# Altium schematic symbol library DualMetro.SchLib: 14 symbols
Pins are listed as number, name and electrical type; pins without a type are passive.

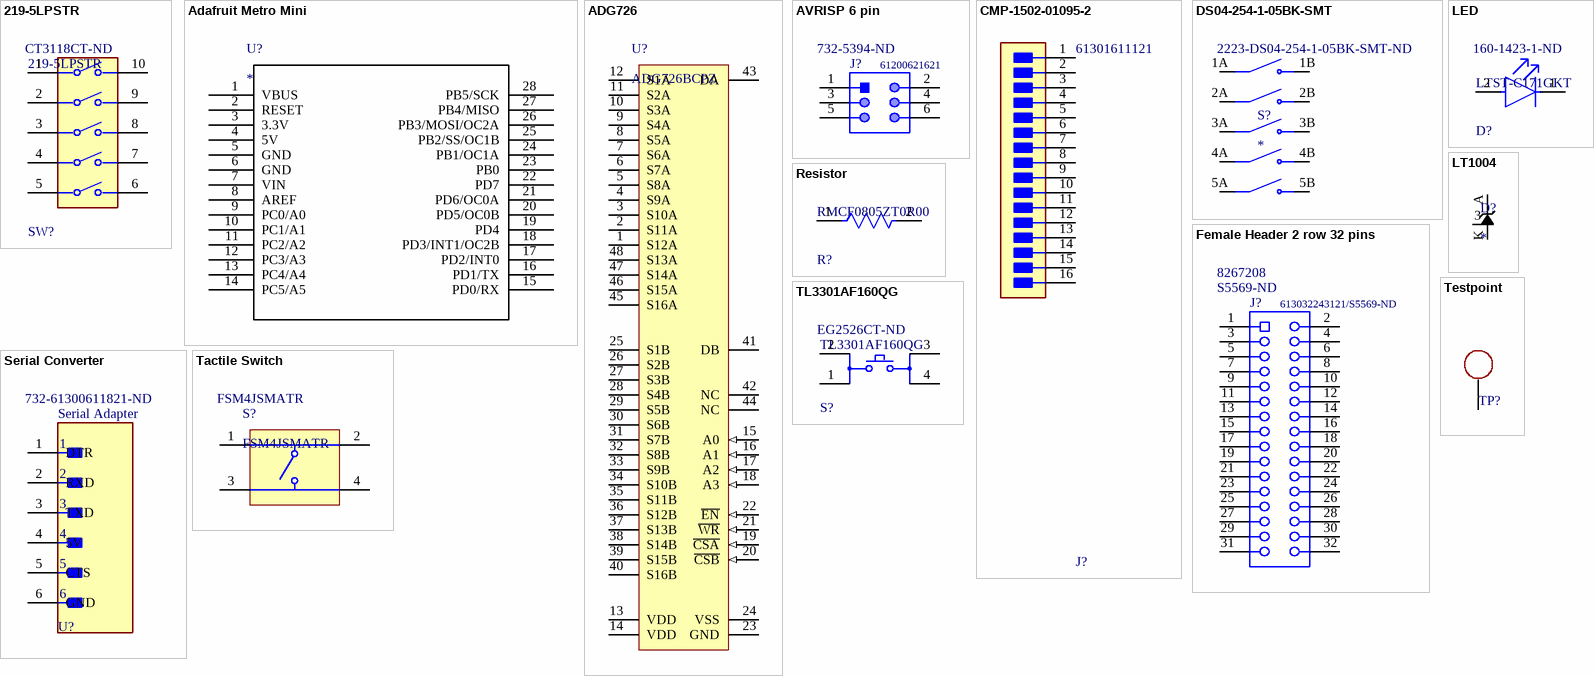
[diagram p0: symbols 219-5LPSTR to TL3301AF160QG]

## 219-5LPSTR
designator SW?  Supplier Part Number 1: CT3118CT-ND
Switches, SPST, Latched, 0.1A, 20VDC, Solder; Pitch: 0.1inch; Actuator Type: Slide (Standard); Washable: Yes; Max Current Rating: 100mA; Number of Positions: 5; Electrical Life: 2000Cycles; Max Voltage Rating (DC): 20V; Packaging: Tape and Reel; Lead Free: Lead Free; Contact Plating: Gold; Max Operating Temperature: 85°C; Length: 0.558inch; Package Quantity: 1000; Orientation: Straight; Min Operating Temperature: -55°C; Radiation Hardening: No; Mount: Surface Mount; Current Rating: 100mA; Termination: Gull Wing; Contact Material: Copper; Voltage Rating (DC): 20V; Depth: 9.91mm; Mechanical Life: 2000Cycles; Throw Configuration: SPST; Supplier 1: Digi-Key
footprint FP-219-5LPSTR-MFG
pins: 1, 2, 3, 4, 5, 6, 7, 8, 9, 10

## Adafruit Metro Mini
designator U?  (no BOM)
footprint Adafruit Metro Mini (ATmega328P development board)
pins: 1 VBUS, 2 RESET, 3 3.3V, 4 5V, 5 GND, 6 GND, 7 VIN, 8 AREF, 9 PC0/A0, 10 PC1/A1, 11 PC2/A2, 12 PC3/A3, 13 PC4/A4, 14 PC5/A5, 15 PD0/RX, 16 PD1/TX, 17 PD2/INT0, 18 PD3/INT1/OC2B, 19 PD4, 20 PD5/OC0B, 21 PD6/OC0A, 22 PD7, 23 PB0, 24 PB1/OC1A, 25 PB2/SS/OC1B, 26 PB3/MOSI/OC2A, 27 PB4/MISO, 28 PB5/SCK

## ADG726
designator U?, comment ADG726BCPZ  (no BOM)
1.8 to 5.5 V / +/-2.5 V, 4 Ohm, 16-Channel Analog Multiplexer, -40 to 85 degC, 48-pin QFN (CP-48-1), Tray; Manufacturer: Analog Devices; Ron (ohms): 4; Supply V Guar Performance: Dual_(+/-2.5V), Single_(+3V), Single_(+5V); Bandwidth (Hz): 34M; Max Analog Signal Range: Vss to Vdd; t transition (s): 23n; PackageDescription: 48-Pin Lead Frame Chip Scale Package, Body 7 x 7 mm, Pitch 0.5 mm; ComponentLink3URL: http:/www.analog.com/static/imported-files/packages/PKG_PDF/LFCSP(CP)/CP-48/CP_48_1.pdf; Code_JEDEC: MO-220-VKKD-2; ComponentLink2Description: Datasheet; PackageReference: CP-48-1; ComponentLink2URL: http://www.analog.com/static/imported-files/data_sheets/ADG726_732.pdf; DatasheetVersion: Rev. 0; PartNumber: ADG726BCPZ; ComponentLink3Description: Package Specification; Packing: Tray; ComponentLink1URL: http://www.analog.com/en/index.html; ComponentLink1Description: Manufacturer URL; Mounting Technology: Surface Mount
footprint ADG726 Breakout
pins: 1 S12A "Source Terminal. May be an input or output.", 2 S11A "Source Terminal. May be an input or output.", 3 S10A "Source Terminal. May be an input or output.", 4 S9A "Source Terminal. May be an input or output.", 5 S8A "Source Terminal. May be an input or output.", 6 S7A "Source Terminal. May be an input or output.", 7 S6A "Source Terminal. May be an input or output.", 8 S5A "Source Terminal. May be an input or output.", 9 S4A "Source Terminal. May be an input or output.", 10 S3A "Source Terminal. May be an input or output.", 11 S2A "Source Terminal. May be an input or output.", 12 S1A "Source Terminal. May be an input or output.", 13 VDD (power) "Most Positive Power Supply Potential", 14 VDD (power) "Most Positive Power Supply Potential", 15 A0 (in), 16 A1 (in), 17 A2 (in), 18 A3 (in), 19 ~{CSA} (in), 20 ~{CSB} (in), 21 ~{WR} (in), 22 ~{EN} (in), 23 GND (power) "Ground (0 V) Reference", 24 VSS (power) "Most Negative Power Supply in a Dual-Supply Application. In single-supply applications, connect to GND.", 25 S1B "Source Terminal. May be an input or output.", 26 S2B "Source Terminal. May be an input or output.", 27 S3B "Source Terminal. May be an input or output.", 28 S4B "Source Terminal. May be an input or output.", 29 S5B "Source Terminal. May be an input or output.", 30 S6B "Source Terminal. May be an input or output.", 31 S7B "Source Terminal. May be an input or output.", 32 S8B "Source Terminal. May be an input or output.", 33 S9B "Source Terminal. May be an input or output.", 34 S10B "Source Terminal. May be an input or output.", 35 S11B "Source Terminal. May be an input or output.", 36 S12B "Source Terminal. May be an input or output.", 37 S13B "Source Terminal. May be an input or output.", 38 S14B "Source Terminal. May be an input or output.", 39 S15B "Source Terminal. May be an input or output.", 40 S16B "Source Terminal. May be an input or output.", 41 DB "Drain Terminal. May be an input or output.", 42 NC "No connect", 43 DA "Drain Terminal. May be an input or output.", 44 NC "No connect", 45 S16A "Source Terminal. May be an input or output.", 46 S15A "Source Terminal. May be an input or output.", 47 S14A "Source Terminal. May be an input or output.", 48 S13A "Source Terminal. May be an input or output."

## AVRISP 6 pin
designator J?, comment 61200621621  Supplier Part Number 1: 732-5394-ND
Male Box Header WR-BHD, THT, Vertical, pitch 2.54 mm, 6 pins; Manufacturer: Wurth Elektronik; Withstanding Voltage: 500VAC; Working Voltage: 250VAC; Pin Number: 6; Pitch: 2.54mm; Contact Resistance: 20mOhm; Part Number: 61200621621; Manufacturer URL: http://www.we-online.de; Published Date: August2018; Orientation: Vertical; Publisher: WurthElektronik; Operating Temperature: -40to125degC; Datasheet URL: https://katalog.we-online.de/em/datasheet/6120xx21621.pdf; Mounting Technology: THT; Packaging: Tray; Gender: Male; Package Reference: 61200621621; Supplier 1: Digi-Key
footprint 61200621621 (6 pins, straight, gold plating)
pins: 1 MISO, 2 5V, 3 SCK, 4 MOSI, 5 RESET, 6 GND

## CMP-1502-01095-2
designator J?, comment 61301611121
CONN HEADER VERT 16POS 2.54MM; Pitch: 0.1inch; Voltage Rating: 250V; Number of Contacts: 16; Gender: Male; Flammability Rating: UL94 V-0; Fastening Type: Pull; Contact Plating: Gold; Termination: Solder; Contact Type: Male Pin; Number of Rows: 1; Max Operating Temperature: 105°C; Insulation Color: Black; Min Operating Temperature: -40°C; Mount: Through Hole; Contact Mating Length: 0.236inch; Contact Finish - Mating: GOLD; Insulation Material: Nylon; Color: Black; Packaging: Bulk; Number of Positions: 16; RoHS Compliant: Yes; Series: WR-PHD; Connector Type: Header; Contact Material: Copper Alloy; Contact Shape: Square
footprint FP-61301611121-MFG
pins: 1, 2, 3, 4, 5, 6, 7, 8, 9, 10, 11, 12, 13, 14, 15, 16

## DS04-254-1-05BK-SMT
designator S?  Supplier Part Number 1: 2223-DS04-254-1-05BK-SMT-ND
MP: DS04-254-1-05BK-SMT; Availability: Unavailable; Price: None; Package: None; Value: *; Supplier 1: Digi-Key
footprint SW_DS04-254-1-05BK-SMT
pins: 1A COM1, 1B NO1, 2A COM2, 2B NO2, 3A COM3, 3B NO3, 4A COM4, 4B NO4, 5A COM5, 5B NO5

## Female Header 2 row 32 pins
designator J?, comment 613032243121/S5569-ND  Supplier Part Number 1: S5569-ND  Supplier Part Number 2: 8267208
THT Angled Socket Header WR-PHD, Pitch 2.54 mm, Dual Row, 32 pins; Manufacturer: Wurth Elektronik; Pitch: 2.54mm; Contact Resistance: 20mOhm; Gender: Female; Withstanding Voltage: 500VAC; Rated Current: 3A; Working Voltage: 250VAC; Pin Number: 32; Publisher: WurthElektronik; Part Number: 613032243121; Manufacturer URL: http://www.we-online.de; Package Reference: 613032243121; Operating Temperature: -40to125degC; Mounting Technology: THT; Packaging: Tray; Datasheet URL: https://katalog.we-online.de/em/datasheet/6130xx243121.pdf; Row Number: Dual; Orientation: Angled; Supplier 1: Digi-Key; Supplier 2: Rs
footprint 613032243121 (Socket Header, Pitch 2.54 mm, THT, Angled, dual row, 32p)
pins: 1, 2, 3, 4, 5, 6, 7, 8, 9, 10, 11, 12, 13, 14, 15, 16, 17, 18, 19, 20, 21, 22, 23, 24, 25, 26, 27, 28, 29, 30, 31, 32

## LED
designator D?, comment LTST-C171GKT  Supplier Part Number 1: 160-1423-1-ND
LED GREEN CLEAR CHIP SMD; Luminous Intensity: 12mcd; Lens Color: Colorless; Dominant Wavelength: 569nm; Number of LEDs: 1; Power Dissipation: 100mW; Viewing Angle: 130°; Reverse Voltage: 5V; Test Current: 10mA; Forward Voltage: 2.1V; Wavelength: 585nm; Lens Style: Diffused; Forward Current: 30mA; Height: 0.8mm; Mount: Surface Mount; Package Quantity: 1; Length: 2mm; Case Code (Metric): 2012; Number of Pins: 2; Number of Elements: 1; Packaging: Tape and Reel; Color: Green; Min Operating Temperature: -55°C; Case/Package: 0805; Power Rating: 100mW; Max Operating Temperature: 85°C; Radiation Hardening: No; Depth: 1.25mm; Lens Transparency: Clear; Width: 1.25mm; Lead Free: Lead Free; Case Code (Imperial): 0805; Illumination Color: Green; Supplier 1: Digi-Key
footprint FP-LTST-C171GKT-MFG
pins: 1 C, 2 A

## LT1004
designator D?  (no BOM)
footprint LT1004CZ (Voltage Reference); pin to pad 3>1 Â1>2
pins: 3, A Anode, K Kathode

## Resistor
designator R?, comment RMCF0805ZT0R00  (no BOM)
RES 0 OHM JUMPER 1/8W 0805; Power Rating: 125mW; Resistance: 0mR; Depth: 1.25mm; Length: 2mm; Military Standard: Not; Width: 0.049inch; Case Code (Imperial): 0805; Number of Terminations: 2; Mount: Surface Mount; Contact Plating: Tin; Height: 0.026inch; Case/Package: 0805; Min Operating Temperature: -55°C; Composition: Thick Film; Max Operating Temperature: 155°C; Packaging: Tape and Reel; Features: Automotive AEC-Q200; Max Power Dissipation: 125mW; Radiation Hardening: No; Lead Free: Lead Free; Case Code (Metric): 2012
footprint FP-RMCF0805-IPC_B
footprint FP-RMCF0805-IPC_C
footprint FP-RMCF0805-IPC_A
footprint FP-RMCF0805-MFG
footprint Drahtwiderstand
pins: 1, 2

## Serial Converter
designator U?, comment Serial Adapter  Supplier Part Number 1: 732-61300611821-ND
CONN HEADER VERT 6POS 2.54MM; Voltage Rating: 250V; Current Rating: 4A; Number of Contacts: 6; Max Voltage Rating (DC): 250.25kV; Gender: Male; Contact Resistance: 20mR; Connector Type: Male Pin; Color: Black; Max Voltage Rating (AC): 250V; Pitch: 2.54mm; Orientation: Straight; Max Operating Temperature: 75°C; Contact Plating: Tin; Depth: 2.49mm; Contact Type: Male Pin; Number of Positions: 6; Length: 15.24mm; Packaging: Bulk; Mount: Through Hole; Housing Material: Thermoplastic; Housing Color: Black; Termination: Solder; Contact Material: Brass; Min Operating Temperature: 0°C; Series: KK® 42375; Number of Rows: 1; Package Quantity: 1; RoHS Compliant: Yes; Contact Mating Length: 0.24inch; Supplier 1: Digi-Key
footprint FP-22-28-4060-MFG
pins: 1 DTR, 2 RXD, 3 TXD, 4 5V, 5 CTS, 6 GND

## Tactile Switch
designator S?, comment FSM4JSMATR
Micro Miniature Push Button Switch FSM JSM, 50 mA, -35 to 85 degC, 4-Pin SMD, RoHS, Tape and Reel; Manufacturer: TE Connectivity; Mechanical Life: 100000Cycles; Current Rating: 50mA; Actuator Material: Polyamide; Max Voltage Rating (DC): 12V; Capacitance: 0f; Illumination Type: Illuminated; Voltage Rating (DC): 24V; Case\/Package: SMD/SMT; Operating Force: 160gf; Contact Resistance: 100mOhm; Actuator Length: 0.055inch; Switch Travel: 0.25mm; Throw Configuration: SPST; Termination: GullWing; Contact Plating: Silver; Orientation: Straight; Mounting Technology: SurfaceMount; REACH SVHC: Unknown; Electrical Life: 100000Cycles; Package Reference: FSM4JSMATR; Max Operating Temperature: 85degC; Manufacturer URL: http://www.te.com/; Package Description: 4-Pin Surface Mount Device, Body 6 x 6 mm, Pitch 4.5 mm; Datasheet Version: Rev. V, 02/2015; Packaging: TapeandReel; Min Operating Temperature: -35degC; Mount: SurfaceMount; Contact Current Rating: 50mA; Contact Material: CopperAlloy; Package Quantity: 1200; Datasheet URL: http://www.te.com/commerce/DocumentDelivery/DDEController?Action=showdoc&DocId=Customer+Drawing%7F2-1437565-7%7FV%7Fpdf%7FEnglish%7FENG_CD_2-1437565-7_V.pdf%7F4-1437565-2; RoHSCompliant: true; Supplier 1: Arrow Electronics; Supplier Part Number 1: FSM4JSMATR
footprint TECO-FSM4JSMATR_V (SMD, 4-Leads, Body 6x6mm, Pitch 4.5mm)
pins: 1, 2, 3, 4

## Testpoint
designator TP?, comment 61300111121  (value not drawn)  (no BOM)
THT Vertical Pin Header WR-PHD, Pitch 2.54 mm, Single Row, 1 pins; Manufacturer: Wurth Elektronik; Gender: Male; Working Voltage: 250VAC; Withstanding Voltage: 500VAC; Pin Number: 1; Contact Resistance: 20mOhm; Rated Current: 3A; Pitch: 2.54mm; Mounting Technology: THT; Datasheet URL: https://katalog.we-online.de/em/datasheet/6130xx11121.pdf; Manufacturer URL: http://www.we-online.de; Operating Temperature: -40to105degC; Publisher: WurthElektronik; Part Number: 61300111121; Row Number: Single; Package Reference: 61300111121; Orientation: Vertical; Packaging: Bag
footprint 61300111121 (Pin Header, pitch 2.54 mm, THT, Vertical, single row, 1p)
pins: 1

## TL3301AF160QG
designator S?  Supplier Part Number 1: EG2526CT-ND
Keypad Switch, 1 Switches, SPST, Momentary-tactile, 0.05A, 50VDC, 2.06N, Solder Terminal, Surface Mount-straight12V; Actuator Type: Standard; Current Rating: 50mA; Contact Resistance: 100mR; Max Voltage Rating (DC): 50V; Voltage Rating (DC): 12V; Actuator Length: 1.4mm; Electrical Life: 100000Cycles; Switch Travel: 0.25mm; Operating Force: 160gf; Switch Function: Off-Mom; Actuator Material: Nylon; Illumination Type: Non-Illuminated; Orientation: Straight; Lead Free: Lead Free; Contact Material: Silver; Series: TL3301; Mount: Surface Mount; Voltage Rating: 50V; REACH SVHC: No SVHC; Packaging: Tape and Reel; Termination: Gull Wing; RoHS Compliant: Yes; Throw Configuration: SPST; Min Operating Temperature: -20°C; Package Quantity: 1000; Mechanical Life: 100000Cycles; Contact Plating: Silver; Max Operating Temperature: 70°C; Insulation Resistance: 100MR; Supplier 1: Digi-Key
footprint FP-TL3301AF160QG-MFG
pins: 1, 2, 3, 4